# EAGLE library part 74AC11194 (library 74ac-logic)
4-bit bidirectional universal SHIFT REGISTER
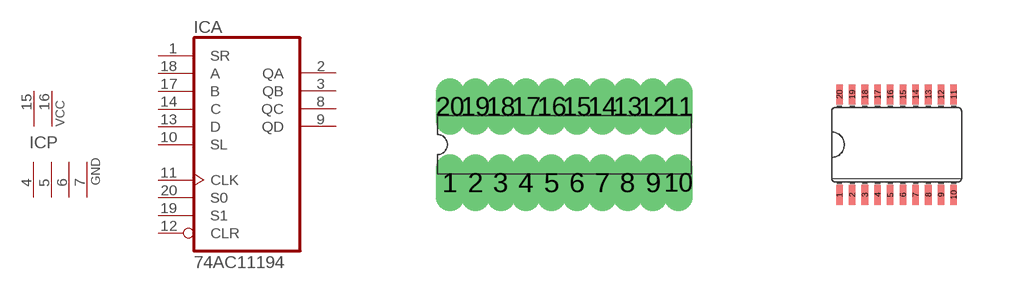
[diagram p27: symbol with the pads of DIL20; footprints DIL20, SO20W]

Designator prefix IC; gates A=7411194 P=2PWR4GND

## 74AC11194  [DIL20]
1  A:SR  in
2  A:QA  out
3  A:QB  out
4  P:GND  pwr
5  P:GND  pwr
6  P:GND  pwr
7  P:GND  pwr
8  A:QC  out
9  A:QD  out
10  A:SL  in
11  A:CLK  in
12  A:CLR  in
13  A:D  in
14  A:C  in
15  P:VCC  pwr
16  P:VCC  pwr
17  A:B  in
18  A:A  in
19  A:S1  in
20  A:S0  in

## 74AC11194D  [SO20W]
Pads as for DIL20

## Footprint DIL20 (pad centres in mm)
Dual In Line Package
drill 0.203 long: 1 -2.857,-0.953; 2 -2.223,-0.953; 3 -1.587,-0.953; 4 -0.953,-0.953; 5 -0.318,-0.953; 6 0.318,-0.953; 7 0.953,-0.953; 8 1.587,-0.953; 9 2.223,-0.953; 10 2.857,-0.953; 11 2.857,0.953; 12 2.223,0.953; 13 1.587,0.953; 14 0.953,0.953; 15 0.318,0.953; 16 -0.318,0.953; 17 -0.953,0.953; 18 -1.587,0.953; 19 -2.223,0.953; 20 -2.857,0.953

## Footprint SO20W (pad centres in mm)
Wide Small Outline package 300 mil
smd 0.165 x 0.508: 1 -1.429,-1.257; 2 -1.111,-1.257; 3 -0.794,-1.257; 4 -0.476,-1.257; 5 -0.159,-1.257; 6 0.159,-1.257; 7 0.476,-1.257; 8 0.794,-1.257; 9 1.111,-1.257; 10 1.429,-1.257; 11 1.429,1.257; 12 1.111,1.257; 13 0.794,1.257; 14 0.476,1.257; 15 0.159,1.257; 16 -0.159,1.257; 17 -0.476,1.257; 18 -0.794,1.257; 19 -1.111,1.257; 20 -1.429,1.257